# Altium schematic symbol library PPTC081LFBN-RC.SchLib: 1 symbol
Pins are listed as number, name and electrical type; pins without a type are passive.

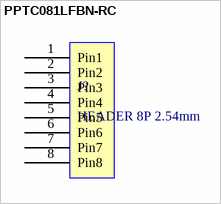
[diagram p0: symbol PPTC081LFBN-RC]

## PPTC081LFBN-RC
designator J?, comment HEADER 8P 2.54mm
footprint PPTC081LFBN-RC
pins: 1 Pin1, 2 Pin2, 3 Pin3, 4 Pin4, 5 Pin5, 6 Pin6, 7 Pin7, 8 Pin8